# EAGLE library part STM32F4 (library stm32f4tuner)
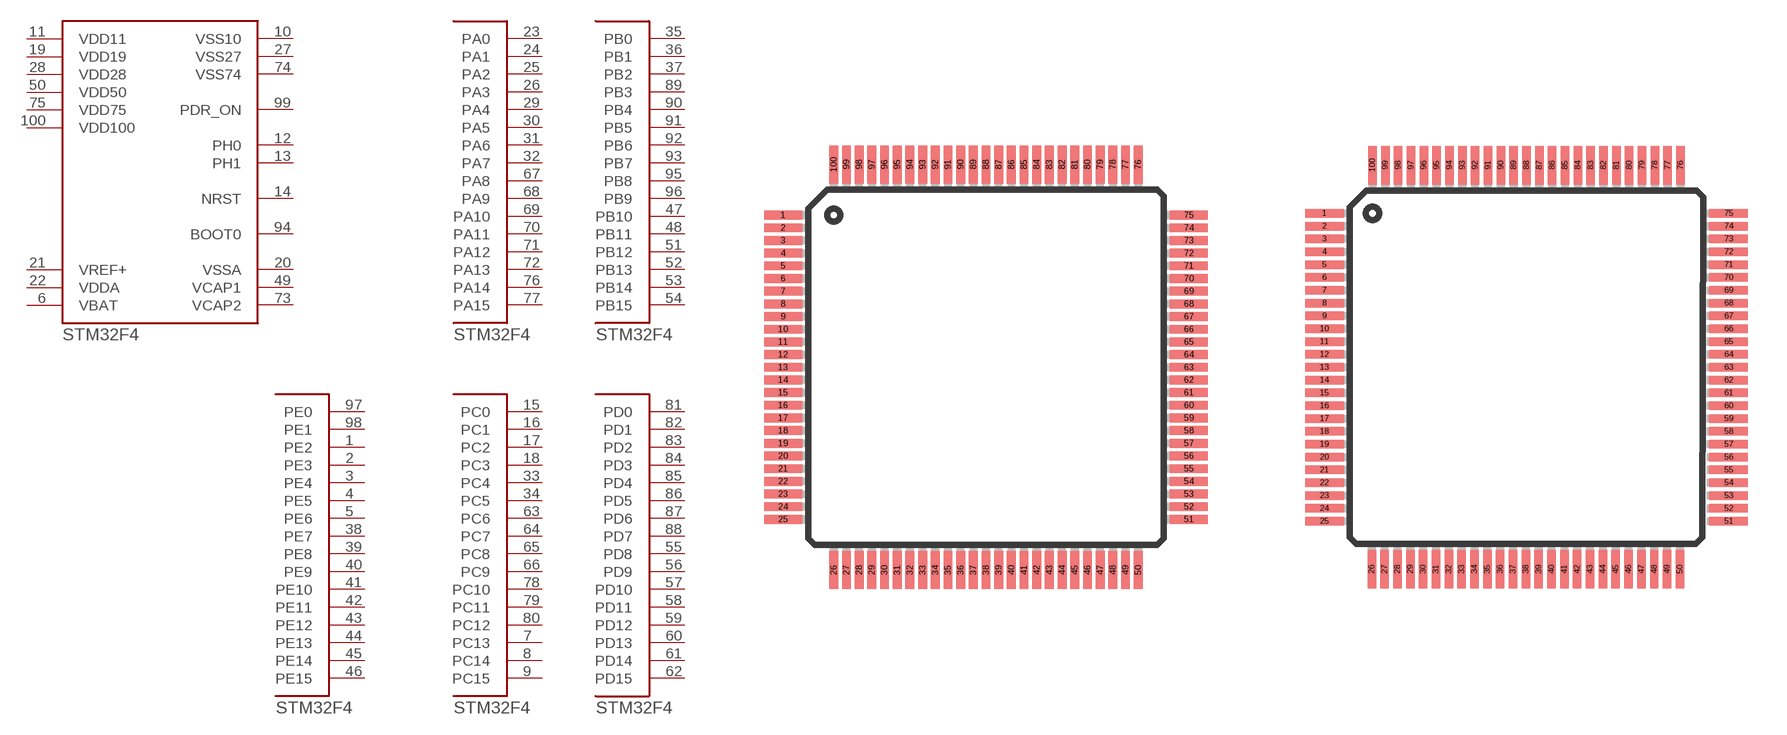
[diagram p0: symbol with the pads of TQFP100; footprints TQFP100, LQFP100]

Designator prefix -; gates G$1=STM32F407VGT6_SUPPLY_CLOCK G$2=STM32F407VGT6_PORTA G$3=STM32F407VGT6_PORTB G$4=STM32F407VGT6_PORTC G$5=STM32F407VGT6_PORTD G$6=STM32F407VGT6_PORTE

## STM32F4TQFP100  [TQFP100]
1  G$6:PE2
2  G$6:PE3
3  G$6:PE4
4  G$6:PE5
5  G$6:PE6
6  G$1:VBAT
7  G$4:PC13
8  G$4:PC14
9  G$4:PC15
10  G$1:VSS10
11  G$1:VDD11
12  G$1:PH0
13  G$1:PH1
14  G$1:NRST
15  G$4:PC0
16  G$4:PC1
17  G$4:PC2
18  G$4:PC3
19  G$1:VDD19
20  G$1:VSSA
21  G$1:VREF+
22  G$1:VDDA
23  G$2:PA0
24  G$2:PA1
25  G$2:PA2
26  G$2:PA3
27  G$1:VSS27
28  G$1:VDD28
29  G$2:PA4
30  G$2:PA5
31  G$2:PA6
32  G$2:PA7
33  G$4:PC4
34  G$4:PC5
35  G$3:PB0
36  G$3:PB1
37  G$3:PB2
38  G$6:PE7
39  G$6:PE8
40  G$6:PE9
41  G$6:PE10
42  G$6:PE11
43  G$6:PE12
44  G$6:PE13
45  G$6:PE14
46  G$6:PE15
47  G$3:PB10
48  G$3:PB11
49  G$1:VCAP1
50  G$1:VDD50
51  G$3:PB12
52  G$3:PB13
53  G$3:PB14
54  G$3:PB15
55  G$5:PD8
56  G$5:PD9
57  G$5:PD10
58  G$5:PD11
59  G$5:PD12
60  G$5:PD13
61  G$5:PD14
62  G$5:PD15
63  G$4:PC6
64  G$4:PC7
65  G$4:PC8
66  G$4:PC9
67  G$2:PA8
68  G$2:PA9
69  G$2:PA10
70  G$2:PA11
71  G$2:PA12
72  G$2:PA13
73  G$1:VCAP2
74  G$1:VSS74
75  G$1:VDD75
76  G$2:PA14
77  G$2:PA15
78  G$4:PC10
79  G$4:PC11
80  G$4:PC12
81  G$5:PD0
82  G$5:PD1
83  G$5:PD2
84  G$5:PD3
85  G$5:PD4
86  G$5:PD5
87  G$5:PD6
88  G$5:PD7
89  G$3:PB3
90  G$3:PB4
91  G$3:PB5
92  G$3:PB6
93  G$3:PB7
94  G$1:BOOT0
95  G$3:PB8
96  G$3:PB9
97  G$6:PE0
98  G$6:PE1
99  G$1:PDR_ON
100  G$1:VDD100

## STM32F4LQFP100  [LQFP100]
Pads as for TQFP100

## Footprint TQFP100 (pad centres in mm)
100-lead Thin Quad Flat Pack Package
smd 1.5 x 0.35: 1 -8,6; 2 -8,5.5; 3 -8,5; 4 -8,4.5; 5 -8,4; 6 -8,3.5; 7 -8,3; 8 -8,2.5; 9 -8,2; 10 -8,1.5; 11 -8,1; 12 -8,0.5; 13 -8,0; 14 -8,-0.5; 15 -8,-1; 16 -8,-1.5; 17 -8,-2; 18 -8,-2.5; 19 -8,-3; 20 -8,-3.5; 21 -8,-4; 22 -8,-4.5; 23 -8,-5; 24 -8,-5.5; 25 -8,-6; 51 8,-6; 52 8,-5.5; 53 8,-5; 54 8,-4.5; 55 8,-4; 56 8,-3.5; 57 8,-3; 58 8,-2.5; 59 8,-2; 60 8,-1.5; 61 8,-1; 62 8,-0.5; 63 8,0; 64 8,0.5; 65 8,1; 66 8,1.5; 67 8,2; 68 8,2.5; 69 8,3; 70 8,3.5; 71 8,4; 72 8,4.5; 73 8,5; 74 8,5.5; 75 8,6
smd 0.35 x 1.5: 26 -6,-8; 27 -5.5,-8; 28 -5,-8; 29 -4.5,-8; 30 -4,-8; 31 -3.5,-8; 32 -3,-8; 33 -2.5,-8; 34 -2,-8; 35 -1.5,-8; 36 -1,-8; 37 -0.5,-8; 38 0,-8; 39 0.5,-8; 40 1,-8; 41 1.5,-8; 42 2,-8; 43 2.5,-8; 44 3,-8; 45 3.5,-8; 46 4,-8; 47 4.5,-8; 48 5,-8; 49 5.5,-8; 50 6,-8; 76 6,8; 77 5.5,8; 78 5,8; 79 4.5,8; 80 4,8; 81 3.5,8; 82 3,8; 83 2.5,8; 84 2,8; 85 1.5,8; 86 1,8; 87 0.5,8; 88 0,8; 89 -0.5,8; 90 -1,8; 91 -1.5,8; 92 -2,8; 93 -2.5,8; 94 -3,8; 95 -3.5,8; 96 -4,8; 97 -4.5,8; 98 -5,8; 99 -5.5,8; 100 -6,8

## Footprint LQFP100 (pad centres in mm)
LQFP 100 Source: 6120s.pdf
smd 1.5 x 0.33: 1 -7.875,6; 2 -7.875,5.5; 3 -7.875,5; 4 -7.875,4.5; 5 -7.875,4; 6 -7.875,3.5; 7 -7.875,3; 8 -7.875,2.5; 9 -7.875,2; 10 -7.875,1.5; 11 -7.875,1; 12 -7.875,0.5; 13 -7.875,0; 14 -7.875,-0.5; 15 -7.875,-1; 16 -7.875,-1.5; 17 -7.875,-2; 18 -7.875,-2.5; 19 -7.875,-3; 20 -7.875,-3.5; 21 -7.875,-4; 22 -7.875,-4.5; 23 -7.875,-5; 24 -7.875,-5.5; 25 -7.875,-6; 51 7.875,-6; 52 7.875,-5.5; 53 7.875,-5; 54 7.875,-4.5; 55 7.875,-4; 56 7.875,-3.5; 57 7.875,-3; 58 7.875,-2.5; 59 7.875,-2; 60 7.875,-1.5; 61 7.875,-1; 62 7.875,-0.5; 63 7.875,0; 64 7.875,0.5; 65 7.875,1; 66 7.875,1.5; 67 7.875,2; 68 7.875,2.5; 69 7.875,3; 70 7.875,3.5; 71 7.875,4; 72 7.875,4.5; 73 7.875,5; 74 7.875,5.5; 75 7.875,6
smd 0.33 x 1.5: 26 -6.025,-7.875; 27 -5.525,-7.875; 28 -5.025,-7.875; 29 -4.525,-7.875; 30 -4.025,-7.875; 31 -3.525,-7.875; 32 -3.025,-7.875; 33 -2.525,-7.875; 34 -2.025,-7.875; 35 -1.525,-7.875; 36 -1.025,-7.875; 37 -0.525,-7.875; 38 -0.025,-7.875; 39 0.475,-7.875; 40 0.975,-7.875; 41 1.475,-7.875; 42 1.975,-7.875; 43 2.475,-7.875; 44 2.975,-7.875; 45 3.475,-7.875; 46 3.975,-7.875; 47 4.475,-7.875; 48 4.975,-7.875; 49 5.475,-7.875; 50 5.975,-7.875; 76 6,7.875; 77 5.5,7.875; 78 5,7.875; 79 4.5,7.875; 80 4,7.875; 81 3.5,7.875; 82 3,7.875; 83 2.5,7.875; 84 2,7.875; 85 1.5,7.875; 86 1,7.875; 87 0.5,7.875; 88 0,7.875; 89 -0.5,7.875; 90 -1,7.875; 91 -1.5,7.875; 92 -2,7.875; 93 -2.5,7.875; 94 -3,7.875; 95 -3.5,7.875; 96 -4,7.875; 97 -4.5,7.875; 98 -5,7.875; 99 -5.5,7.875; 100 -6,7.875